# EAGLE library part CBC3150 (library 00_cody)
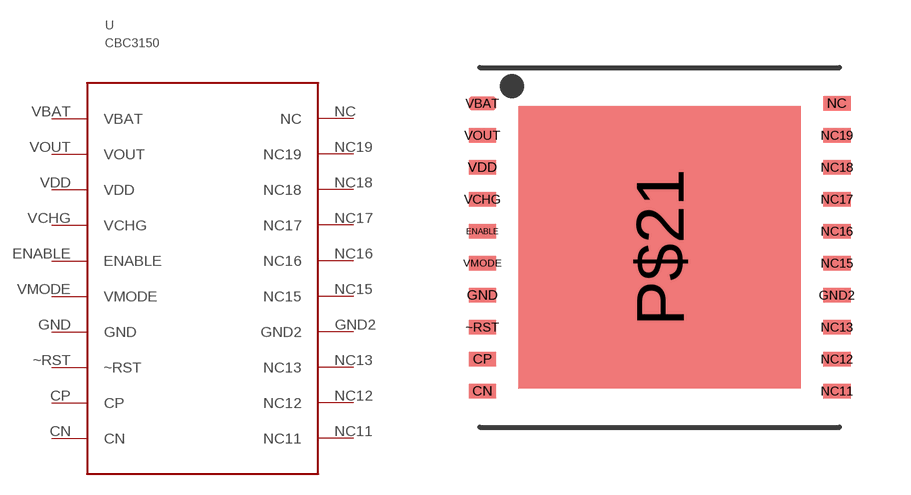
[diagram p152: symbol with the pads of CBC3150; footprint CBC3150]

Designator prefix -

## CBC3150  [CBC3150]
CN  CN
CP  CP
ENABLE  ENABLE
GND  GND
GND2  GND2
NC  NC
NC11  NC11
NC12  NC12
NC13  NC13
NC15  NC15
NC16  NC16
NC17  NC17
NC18  NC18
NC19  NC19
VBAT  VBAT
VCHG  VCHG
VDD  VDD
VMODE  VMODE
VOUT  VOUT
~RST  ~RST

## Footprint CBC3150 (pad centres in mm)
smd 0.686 x 0.356: CN -4.433,-3.6; CP -4.433,-2.8; ENABLE -4.433,0.4; GND -4.433,-1.2; GND2 4.433,-1.2; NC 4.433,3.6; NC11 4.433,-3.6; NC12 4.433,-2.8; NC13 4.433,-2; NC15 4.433,-0.4; NC16 4.433,0.4; NC17 4.433,1.2; NC18 4.433,2; NC19 4.433,2.8; VBAT -4.433,3.6; VCHG -4.433,1.2; VDD -4.433,2; VMODE -4.433,-0.4; VOUT -4.433,2.8; ~RST -4.433,-2
smd 7.07 x 7.07: P$21 0,0